# EAGLE library part OLED (library project2)
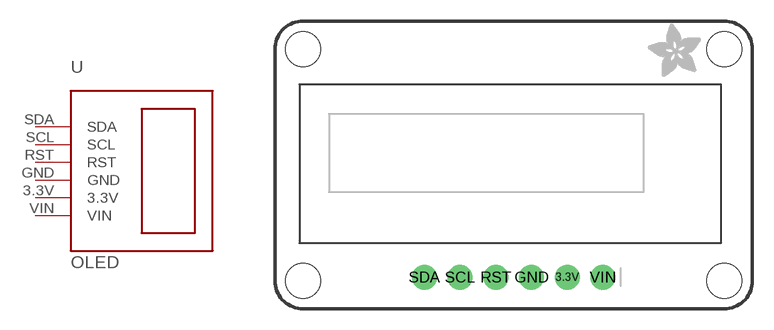
[diagram p0: symbol with the pads of OLED; footprint OLED]

Designator prefix U

## OLED  [OLED]
3.3V  3.3V
GND  GND
RST  RST
SCL  SCL
SDA  SDA
VIN  VIN

## Footprint OLED (pad centres in mm)
Package generated by make-group2pac.ulp from: C:/Users/RiceLoaner/Downloads/Adafruit OLED 128x32 Mono I2C.brd at: 12/11/2023 9:46 PM
drill 1 pad 1.778: 3.3V 20.81,2.254; GND 18.27,2.254; RST 15.73,2.254; SCL 13.19,2.254; SDA 10.65,2.254; VIN 23.35,2.254
hole 2.5 at 2,2
hole 2.5 at 2,18.5
hole 2.5 at 32,18.5
hole 2.5 at 32,2